# EAGLE library part 750315504 (library Wurth Electronics Midcom Inc - EAGLE Lib V2-1)
Package Style: EPX6 Mounting: SMD Pins: 8 pins Bobbin: 070-5946 Best pinouts for production vary per application. Please contact Wurth Electronics Midcom, Inc. for assistance with your custom design. Website: Wurth Electronics Midcom <http://www.we-online.com/midcom> Contact us Wurth Electronics Midcom, Inc. 121 Airport Dr. Watertown, SD 57201 Phone: (605) 886-4385 Fax: (605) 886-4486 E-Mail: midcom@we-online.com
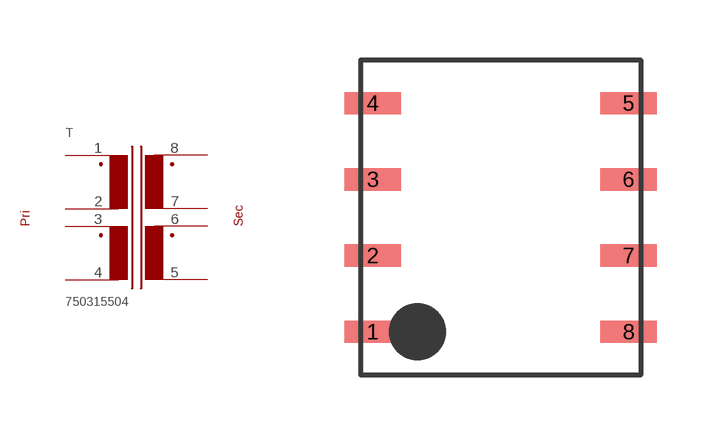
[diagram p58: symbol with the pads of EPX6_SMD_H_8PIN_(5946); footprint EPX6_SMD_H_8PIN_(5946)]

Designator prefix T

## 750315504  [EPX6_SMD_H_8PIN_(5946)]
1  1  pas
2  2  pas
3  3  pas
4  4  pas
5  5  pas
6  6  pas
7  7  pas
8  8  pas

## Footprint EPX6_SMD_H_8PIN_(5946) (pad centres in mm)
Package Style: EPX6 Mounting: SMD Pins: 8 Bobbin: 070-5946
smd 1.422 x 0.559: 1 -3.2,-2.857; 2 -3.2,-0.953; 3 -3.2,0.953; 4 -3.2,2.857; 5 3.2,2.857; 6 3.2,0.953; 7 3.2,-0.953; 8 3.2,-2.857